# EAGLE library part ADC (library ProjectComponent)
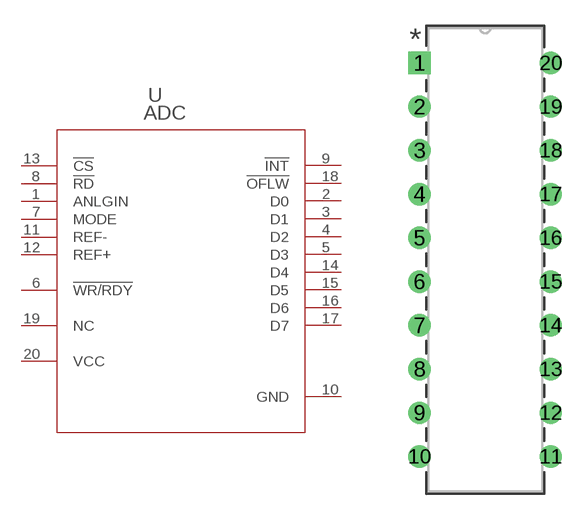
[diagram p5: symbol with the pads of N20; footprint N20]

Designator prefix U

## ADC (MANUFACTURER_PART_NUMBER: TLC0820ACN; VENDOR: Texas Instruments)  [N20]
1  ANLGIN  in
2  D0  out
3  D1  out
4  D2  out
5  D3  out
6  !WR/RDY
7  MODE  in
8  !RD  in
9  !INT  out
10  GND  pwr
11  REF-  in
12  REF+  in
13  !CS  in
14  D4  out
15  D5  out
16  D6  out
17  D7  out
18  !OFLW  out
19  NC  nc
20  VCC  pwr

## Footprint N20 (pad centres in mm)
drill 0.787 pad 1.295 square: 1 -7.62,22.86
drill 0.787 pad 1.295: 2 -7.62,20.32; 3 -7.62,17.78; 4 -7.62,15.24; 5 -7.62,12.7; 6 -7.62,10.16; 7 -7.62,7.62; 8 -7.62,5.08; 9 -7.62,2.54; 10 -7.62,0; 11 0,0; 12 0,2.54; 13 0,5.08; 14 0,7.62; 15 0,10.16; 16 0,12.7; 17 0,15.24; 18 0,17.78; 19 0,20.32; 20 0,22.86